# Altium footprint library MaUWB.PcbLib: 30 footprints (part 1 of 2)
Each footprint in its own frame and in the unit in brackets; x right, y up, seen from the top. Pads: shape width x height; smd on the part's side, far side on the other; paste and mask are expansions set on the pad; w line width, h text height; cw(c..) or ccw(c..) is an arc to the next point about the centre after c.
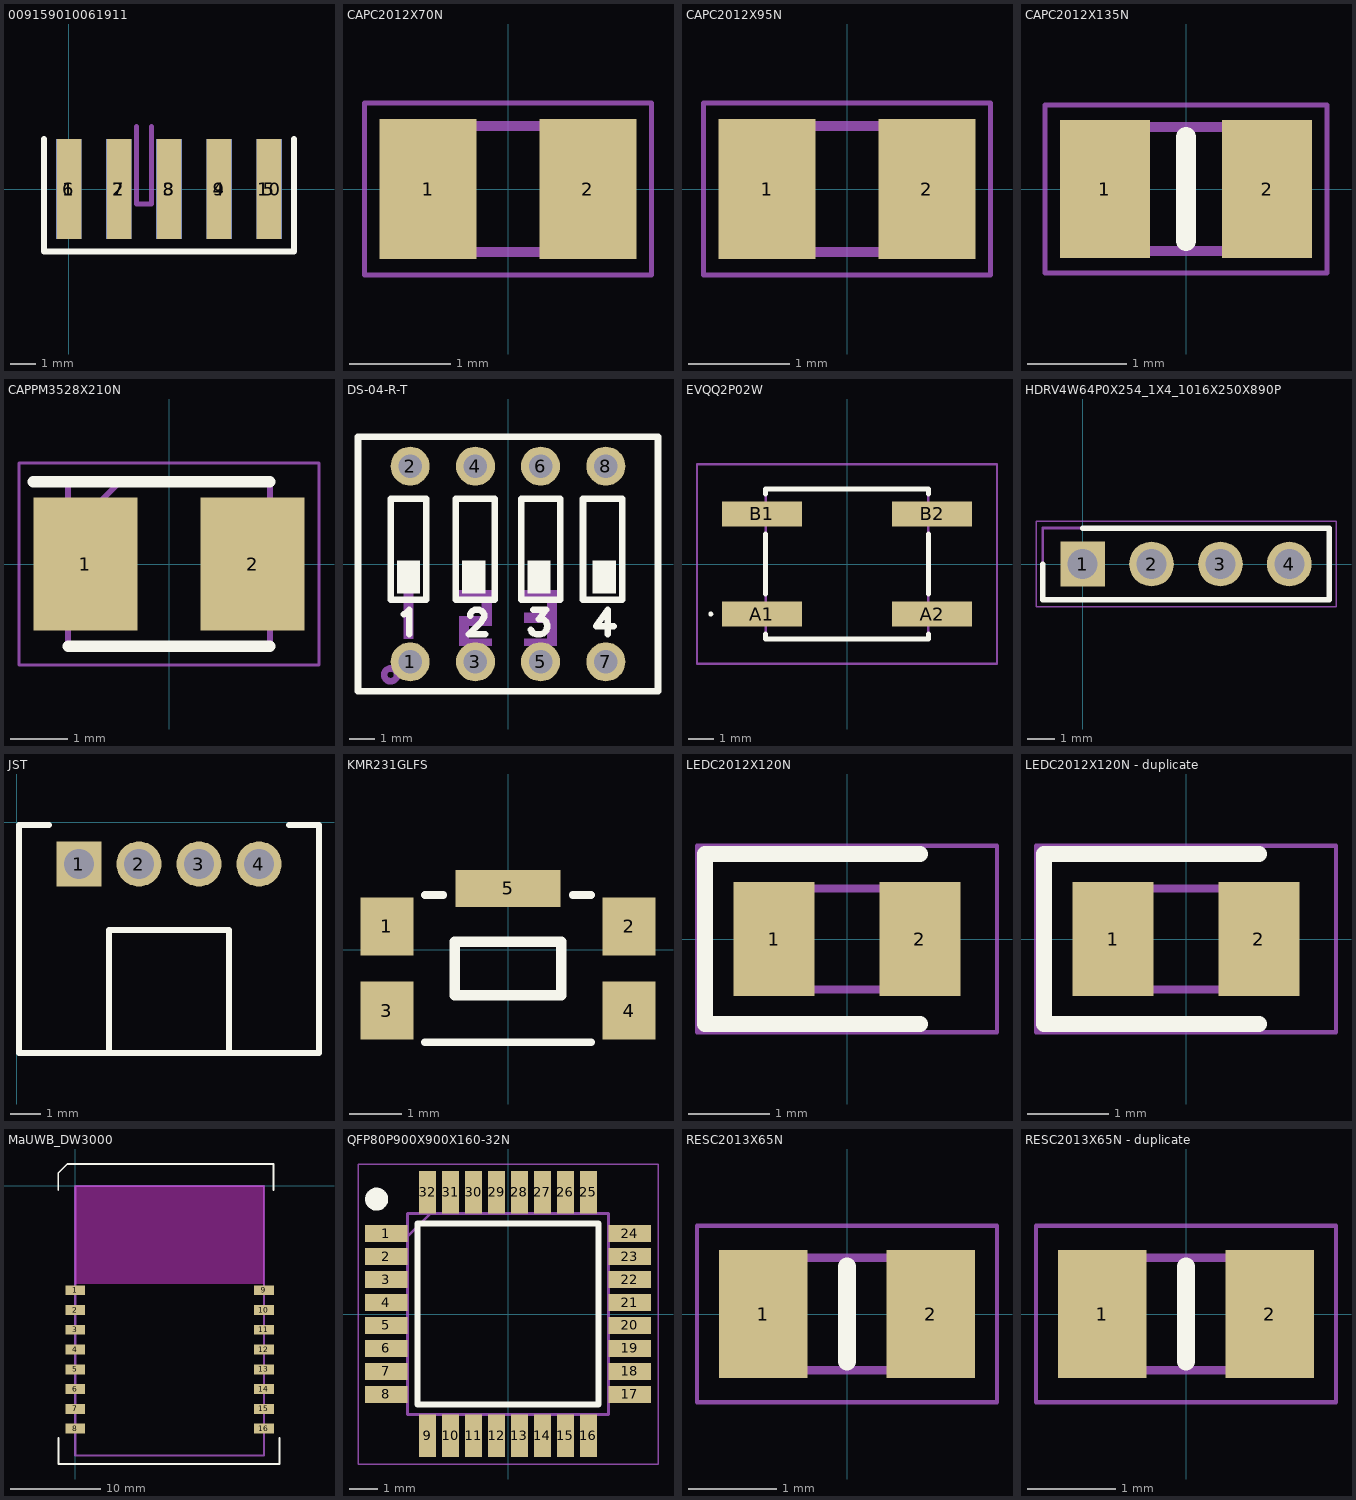
[diagram p0: the footprints below, top view; thin cyan lines are the x and y axes]

## 009159010061911 [mm]
pads (10):
  rect 1x4 smd: 1(0,0) 2(2,0) 3(4,0) 4(6,0) 5(8,0)
  rect 1x4 smd far side: 6(0,0) 7(2,0) 8(4,0) 9(6,0) 10(8,0)
Top Overlay:
  lines w0.254: -1,2 -1,-2.5 9,-2.5 9,2
Bottom Overlay:
  lines w0.254: -1,2 -1,-2.5 9,-2.5 9,2
Board:
  lines w0.2: 2.7,2.5 2.7,-0.6 3.3,-0.6 3.3,2.5

## CAPC2012X70N [mm]
pads (2):
  rect 0.96x1.39 smd: 1(-0.79,0) 2(0.79,0)
Mechanical 13:
  lines w0.1: -1,-0.625 1,-0.625 1,0.625 -1,0.625 -1,-0.625
Mechanical 15:
  lines w0.05: -1.42,-0.85 1.42,-0.85 1.42,0.85 -1.42,0.85 -1.42,-0.85
3D body "CC0805JRNPO9BN100.stp": height 0.7, standoff 0, extent -1,-0.625 1,0.625

## CAPC2012X95N [mm]
pads (2):
  rect 0.96x1.39 smd: 1(-0.79,0) 2(0.79,0)
Mechanical 13:
  lines w0.1: -1,-0.625 1,-0.625 1,0.625 -1,0.625 -1,-0.625
Mechanical 15:
  lines w0.05: -1.42,-0.85 1.42,-0.85 1.42,0.85 -1.42,0.85 -1.42,-0.85
3D body "CC0805KRX7R9BB104.stp": height 0.95, standoff 0, extent -1,-0.625 1,0.625

## CAPC2012X135N [mm]
pads (2):
  rect 0.91x1.39 smd: 1(-0.82,0) 2(0.82,0)
Top Overlay:
  lines w0.2: 0,-0.525 0,0.525
Mechanical 13:
  lines w0.1: -1,-0.625 1,-0.625 1,0.625 -1,0.625 -1,-0.625
Mechanical 15:
  lines w0.05: -1.425,-0.85 1.425,-0.85 1.425,0.85 -1.425,0.85 -1.425,-0.85
3D body "CL21B105KAFNNNE.stp": height 1.35, standoff 0, extent -1,-0.625 1,0.625

## CAPPM3528X210N [mm] "100uF, Tantalum"
pads (2):
  rect 1.8x2.3 smd: 1(-1.45,0) 2(1.45,0)
Top Overlay:
  lines w0.2: -2.35,1.425 1.75,1.425 ; -1.75,-1.425 1.75,-1.425
Mechanical 13:
  lines w0.1: -1.75,0.525 -0.85,1.425 ; -1.75,-1.425 -1.75,1.425 1.75,1.425 1.75,-1.425 -1.75,-1.425
Mechanical 15:
  lines w0.05: -2.6,-1.75 -2.6,1.75 2.6,1.75 2.6,-1.75 -2.6,-1.75
3D body "TAJB107M010RNJ.stp": height 2.1, standoff 0, extent -1.75,-1.425 1.75,1.425

## DS-04-R-T [mil]
pads (8):
  rrect100% 60x60 hole 36: 1(-150,-150) 2(-150,150) 3(-50,-150) 4(-50,150) 5(50,-150) 6(50,150) 7(150,-150) 8(150,150)
Top Overlay:
  region: 165,-45 130,-45 130,5 165,5
  region: 65,-45 30,-45 30,5 65,5
  region: -35,-45 -70,-45 -70,5 -35,5
  region: -135,-45 -170,-45 -170,5 -135,5
  lines w10: -160,-77.4 -156.4,-75.6 -151.1,-70.3 -151.1,-107.9 ; -58.2,-79.2 -58.2,-77.4 -56.4,-73.9 -54.6,-72.1 -51.1,-70.3 -43.9,-70.3 -40.3,-72.1 -38.5,-73.9 -36.7,-77.4 -36.7,-81 -38.5,-84.6 -42.1,-90 -60,-107.9 -34.9,-107.9 ; 35,-100.7 36.8,-104.3 38.6,-106.1 43.9,-107.9 49.3,-107.9 54.7,-106.1 58.3,-102.5 60.1,-97.1 60.1,-93.5 58.3,-88.2 56.5,-86.4 52.9,-84.6 47.5,-84.6 58.3,-70.3 38.6,-70.3 ; 152.9,-107.9 152.9,-70.3 135,-95.3 161.8,-95.3 ; -230,-195 230,-195 230,195 -230,195 -230,-195 ; -180,-55 -180,100 -125,100 -125,-55 -180,-55 ; -80,-55 -80,100 -20,100 -20,-55 -80,-55 ; 20,-55 20,100 80,100 80,-55 20,-55 ; 115,-55 115,100 175,100 175,-55 115,-55
Mechanical 6:
  circle w10: c-180,-170 r9.84
  region: 60,-90 25,-90 25,-75 60,-75
  region: 60,-125 25,-125 25,-115 60,-115
  region: 75,-125 60,-125 60,-55 75,-55
  region: 75,-55 25,-55 25,-40 75,-40
  region: -25,-125 -60,-125 -60,-115 -25,-115
  region: -60,-125 -75,-125 -75,-95 -60,-95
  region: -25,-95 -75,-95 -75,-80 -25,-80
  region: -25,-80 -40,-80 -40,-55 -25,-55
  region: -25,-55 -75,-55 -75,-40 -25,-40
  region: -145,-115 -160,-115 -160,-40 -145,-40
3D body "DS-4.STEP": height 271.65, standoff -137.8, extent -230,-189.76 235.35,200

## EVQQ2P02W [mm]
pads (4):
  rect 3.2x1 smd: A1(-3.4,-2) A2(3.4,-2) B1(-3.4,2) B2(3.4,2)
Top Overlay:
  lines w0.1: -5.5,-2 ccw(c-5.45,-2) -5.4,-2 ccw(c-5.45,-2) -5.5,-2
  lines w0.2: -3.25,-2.8 -3.25,-3 3.25,-3 3.25,-2.8 ; -3.25,-1.2 -3.25,1.2 ; -3.25,2.8 -3.25,3 3.25,3 3.25,2.8 ; 3.25,-1.2 3.25,1.2
Mechanical 13:
  lines w0.1: -3.25,-3 3.25,-3 3.25,3 -3.25,3 -3.25,-3
Mechanical 15:
  lines w0.1: -6,-4 6,-4 6,4 -6,4 -6,-4
3D body "EVQ-Q2P02W.stp": height 2.5, standoff 0, extent -3.3,-3 3.3,3

## HDRV4W64P0X254_1X4_1016X250X890P [mm]
pads (4):
  rect 1.65x1.65 hole 1.1: 1(0,0)
  round 1.65 hole 1.1: 2(2.54,0) 3(5.08,0) 4(7.62,0)
Top Overlay:
  lines w0.2: -1.47,0 -1.47,-1.325 9.09,-1.325 9.09,1.325 0,1.325
Mechanical 13:
  lines w0.1: -1.47,-1.325 -1.47,1.325 9.09,1.325 9.09,-1.325 -1.47,-1.325
Mechanical 15:
  lines w0.05: -1.72,-1.575 -1.72,1.575 9.34,1.575 9.34,-1.575 -1.72,-1.575
3D body "PZ254V-11-04P.stp": height 8.9, standoff -3.25, extent -1.27,-1.25 8.89,1.25

## JST [mm]
pads (4):
  rect 1.5x1.5 hole 1: 1(2.08,-1.397)
  rrect100% 1.5x1.5 hole 1: 2(4.08,-1.397) 3(6.08,-1.397) 4(8.08,-1.397)
Top Overlay:
  lines w0.2: 0.08,-7.697 0.08,-0.097 1.08,-0.097 ; 0.081,-7.698 10.08,-7.698 ; 3.081,-7.597 3.081,-3.596 7.08,-3.596 ; 7.079,-7.597 7.079,-3.596 ; 9.08,-0.097 10.08,-0.097 ; 10.079,-7.698 10.079,-0.096
3D body "S4B-PH-K-S-_LF_SN.step": height 4.8, standoff -3.4, extent 0.13,-7.597 10.031,0.003

## KMR231GLFS [mm]
pads (5):
  rect 1x1.1 smd: 1(-2.3,0.438) 2(2.3,0.438) 3(-2.3,-1.162) 4(2.3,-1.162)
  rect 2x0.7 smd: 5(0,1.162)
Top Overlay:
  lines w0.15: -1.574,-1.762 1.574,-1.762 ; -1.574,1.038 -1.231,1.038 ; 1.231,1.038 1.574,1.038
  lines w0.2: -1.016,-0.87 -1.016,0.146 1.016,0.146 1.016,-0.87 -1.016,-0.87
3D body "KMR231GLFS.step": height 1.95, standoff -0.03, extent -2.275,-1.775 2.325,1.068

## LEDC2012X120N [mm]
pads (2):
  rect 1x1.4 smd: 1(-0.9,0) 2(0.9,0)
Top Overlay:
  lines w0.2: 0.9,-1.05 -1.75,-1.05 -1.75,1.05 0.9,1.05
Mechanical 13:
  lines w0.1: -1,0.208 -0.583,0.625 ; -1,-0.625 1,-0.625 1,0.625 -1,0.625 -1,-0.625
Mechanical 15:
  lines w0.05: -1.85,-1.15 1.85,-1.15 1.85,1.15 -1.85,1.15 -1.85,-1.15
3D body "LTST-C170KRKT.stp": height 1.1, standoff 0, extent -1.028,-0.62 0.972,0.63

## LEDC2012X120N - duplicate [mm]
pads (2):
  rect 1x1.4 smd: 1(-0.9,0) 2(0.9,0)
Top Overlay:
  lines w0.2: 0.9,-1.05 -1.75,-1.05 -1.75,1.05 0.9,1.05
Mechanical 13:
  lines w0.1: -1,0.208 -0.583,0.625 ; -1,-0.625 1,-0.625 1,0.625 -1,0.625 -1,-0.625
Mechanical 15:
  lines w0.05: -1.85,-1.15 1.85,-1.15 1.85,1.15 -1.85,1.15 -1.85,-1.15
3D body "LTST-C170KRKT.stp": height 1.1, standoff 0, extent -1.028,-0.62 0.972,0.63

## MaUWB_DW3000 [mm]
pads (16):
  rect 2.2x1.1 smd: 1(-0.008,-11.641) 2(-0.008,-13.841) 3(-0.008,-16.041) 4(-0.008,-18.241) 5(-0.008,-20.441) 6(-0.008,-22.641) 7(-0.008,-24.841) 8(-0.008,-27.041) 9(20.992,-11.641) 10(20.992,-13.841) 11(20.992,-16.041) 12(20.992,-18.241) 13(20.992,-20.441) 14(20.992,-22.641) 15(20.992,-24.841) 16(20.992,-27.041)
Top Overlay:
  lines w0.2: -1.897,-0.495 -1.897,1.405 -0.897,2.405 20.103,2.405 ; -1.855,-28.075 -1.855,-30.975 19.849,-30.975 ; 0.749,-30.975 22.749,-30.975 ; 1.003,2.405 22.003,2.405 ; 22.064,-0.495 22.064,2.405 ; 22.725,-30.975 22.725,-28.075
Keep-Out Layer:
  rectangle: -0.008,-10.924 20.992,-0.041
Mechanical 1:
  lines w0.254: 20.992,-30.041 -0.008,-30.041 -0.008,-0.041 20.992,-0.041 ; 21.005,-30.041 21.005,-0.041

## QFP80P900X900X160-32N [mm]
pads (32):
  rect 1.475x0.6 smd: 1(-4.238,2.8) 2(-4.238,2) 3(-4.238,1.2) 4(-4.238,0.4) 5(-4.238,-0.4) 6(-4.238,-1.2) 7(-4.238,-2) 8(-4.238,-2.8) 17(4.238,-2.8) 18(4.238,-2) 19(4.238,-1.2) 20(4.238,-0.4) 21(4.238,0.4) 22(4.238,1.2) 23(4.238,2) 24(4.238,2.8)
  rect 0.6x1.475 smd: 9(-2.8,-4.238) 10(-2,-4.238) 11(-1.2,-4.238) 12(-0.4,-4.238) 13(0.4,-4.238) 14(1.2,-4.238) 15(2,-4.238) 16(2.8,-4.238) 25(2.8,4.238) 26(2,4.238) 27(1.2,4.238) 28(0.4,4.238) 29(-0.4,4.238) 30(-1.2,4.238) 31(-2,4.238) 32(-2.8,4.238)
Top Overlay:
  circle w0.4: c-4.575,4 r0.2
  lines w0.2: -3.15,-3.15 -3.15,3.15 3.15,3.15 3.15,-3.15 -3.15,-3.15
Mechanical 13:
  lines w0.1: -3.5,2.7 -2.7,3.5 ; -3.5,-3.5 -3.5,3.5 3.5,3.5 3.5,-3.5 -3.5,-3.5
Mechanical 15:
  lines w0.05: -5.225,-5.225 -5.225,5.225 5.225,5.225 5.225,-5.225 -5.225,-5.225
3D body "STM32C031K4T6.stp": height 1.6, standoff 0, extent -4.5,-4.5 4.5,4.5

## RESC2013X65N [mm]
pads (2):
  rect 1x1.45 smd: 1(-0.95,0) 2(0.95,0)
Top Overlay:
  lines w0.2: 0,-0.538 0,0.538
Mechanical 13:
  lines w0.1: -1,-0.638 1,-0.638 1,0.638 -1,0.638 -1,-0.638
Mechanical 15:
  lines w0.05: -1.7,-1 1.7,-1 1.7,1 -1.7,1 -1.7,-1
3D body "0805W8F4701T5E.stp": height 0.65, standoff 0, extent -1,-0.637 1,0.637

## RESC2013X65N - duplicate [mm]
pads (2):
  rect 1x1.45 smd: 1(-0.95,0) 2(0.95,0)
Top Overlay:
  lines w0.2: 0,-0.538 0,0.538
Mechanical 13:
  lines w0.1: -1,-0.638 -1,0.638 1,0.638 1,-0.638 -1,-0.638
Mechanical 15:
  lines w0.05: -1.7,-1 -1.7,1 1.7,1 1.7,-1 -1.7,-1
3D body "0805W8F4701T5E.stp": height 0.65, standoff 0, extent -1,-0.637 1,0.637